# Altium footprint library WE-OLPI.PcbLib: 9 footprints
Each footprint in its own frame and in the unit in brackets; x right, y up, seen from the top. Pads: shape width x height; smd on the part's side, far side on the other; paste and mask are expansions set on the pad; w line width, h text height; cw(c..) or ccw(c..) is an arc to the next point about the centre after c.
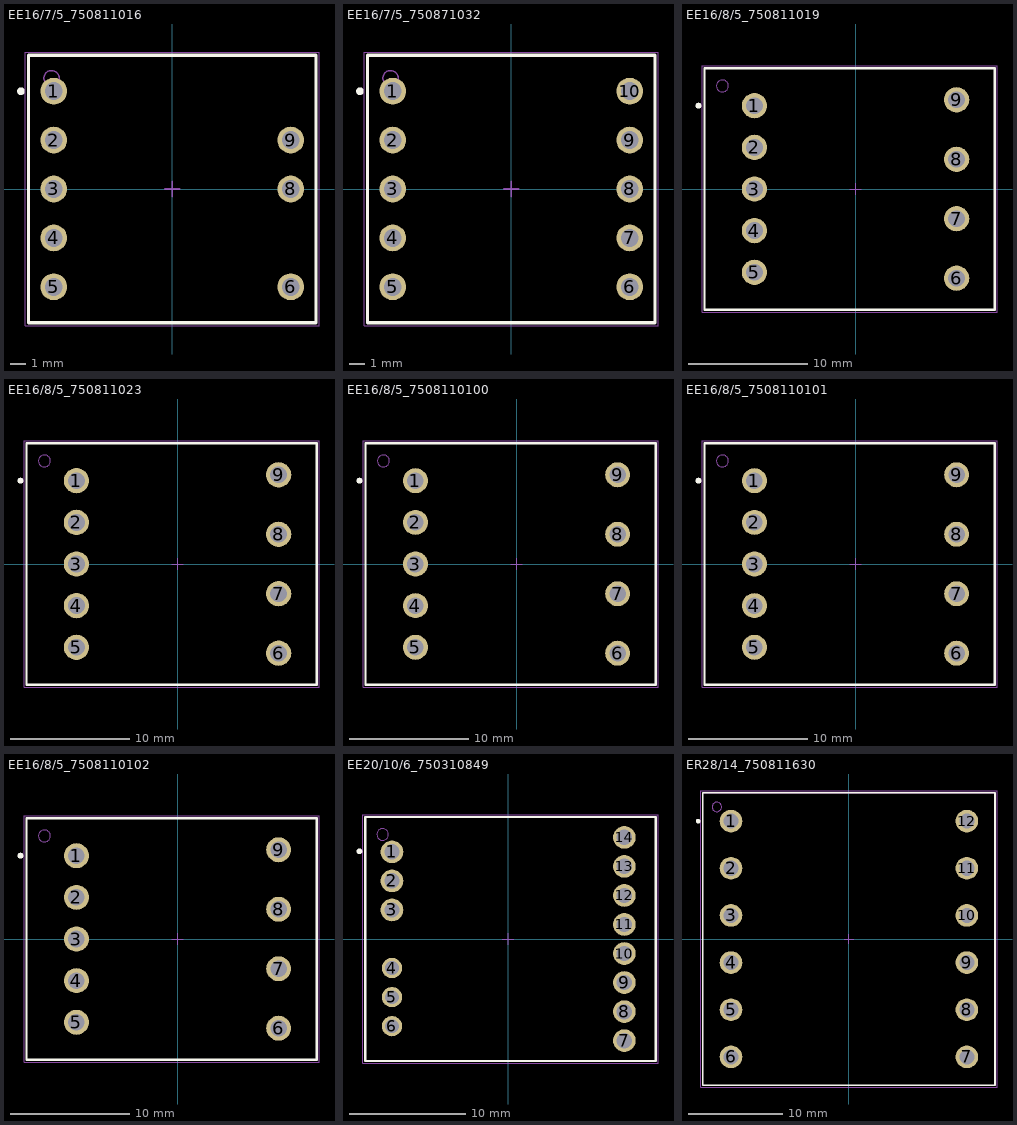
[diagram p0: the footprints below, top view; thin cyan lines are the x and y axes]

## EE16/7/5_750811016 [mm] "Offline Flyback Transformer, body 18.80 x 17.50 mm"
height 13.31
pads (8):
  round 1.75 hole 1.17: 1(-7.75,6.4) 2(-7.75,3.2) 3(-7.75,0) 4(-7.75,-3.2) 5(-7.75,-6.4) 6(7.75,-6.4) 8(7.75,0) 9(7.75,3.2)
Top Overlay:
  circle w0.25: c-9.9,6.4 r0.125
  lines w0.2: -9.4,-8.75 9.4,-8.75 9.4,8.75 -9.4,8.75 -9.4,-8.75
Top Assembly:
  circle w0.1: c-7.9,7.25 r0.5
  lines w0.1: -9.4,-8.75 9.4,-8.75 9.4,8.75 -9.4,8.75 -9.4,-8.75
Top Designator:
  text ".Designator" at -3.647,-0.357 h1
Top Courtyard:
  lines w0.05: -9.6,-8.95 9.6,-8.95 9.6,8.95 -9.6,8.95 -9.6,-8.95
Top Component Center:
  lines w0.1: -0.5,0 0.5,0 ; 0,-0.5 0,0.5
3D body "Download_STP_070-5472_MP7-10 (rev1).STEP": height 12.19, standoff -3.5, extent -9.107,-8.36 9.443,8.36

## EE16/7/5_750871032 [mm] "Offline Flyback Transformer, body 18.80 x 17.50 mm"
height 13.97
pads (10):
  round 1.75 hole 1.17: 1(-7.75,6.4) 2(-7.75,3.2) 3(-7.75,0) 4(-7.75,-3.2) 5(-7.75,-6.4) 6(7.75,-6.4) 7(7.75,-3.2) 8(7.75,0) 9(7.75,3.2) 10(7.75,6.4)
Top Overlay:
  circle w0.25: c-9.9,6.4 r0.125
  lines w0.2: -9.4,-8.75 9.4,-8.75 9.4,8.75 -9.4,8.75 -9.4,-8.75
Top Assembly:
  circle w0.1: c-7.9,7.25 r0.5
  lines w0.1: -9.4,-8.75 9.4,-8.75 9.4,8.75 -9.4,8.75 -9.4,-8.75
Top Designator:
  text ".Designator" at -3.647,-0.357 h1
Top Courtyard:
  lines w0.05: -9.6,-8.95 9.6,-8.95 9.6,8.95 -9.6,8.95 -9.6,-8.95
Top Component Center:
  lines w0.1: -0.5,0 0.5,0 ; 0,-0.5 0,0.5
3D body "Download_STP_070-5472 (rev1).STEP": height 12.19, standoff -3.5, extent -9.107,-8.36 9.443,8.36

## EE16/8/5_750811019 [mm] "Offline Flyback Transformer, body 24.38 x 20.32 mm"
height 16
pads (9):
  round 2.12 hole 1.42: 1(-8.5,7) 2(-8.5,3.5) 3(-8.5,0) 4(-8.5,-3.5) 5(-8.5,-7) 6(8.5,-7.5) 7(8.5,-2.5) 8(8.5,2.5) 9(8.5,7.5)
Top Overlay:
  circle w0.25: c-13.2,7 r0.125
  lines w0.2: -12.69,-10.16 11.69,-10.16 11.69,10.16 -12.69,10.16 -12.69,-10.16
Top Assembly:
  circle w0.1: c-11.19,8.66 r0.5
  lines w0.1: -12.69,-10.16 11.69,-10.16 11.69,10.16 -12.69,10.16 -12.69,-10.16
Top Designator:
  text ".Designator" at -3.647,-0.357 h1
Top Courtyard:
  lines w0.05: -12.89,-10.36 11.89,-10.36 11.89,10.36 -12.89,10.36 -12.89,-10.36
Top Component Center:
  lines w0.1: -0.5,0 0.5,0 ; 0,-0.5 0,0.5
3D body "070-5280 (rev1) (1).STEP": height 14.92, standoff -3.48, extent -12.405,-9.9 11.405,9.9

## EE16/8/5_750811023 [mm] "Offline Flyback Transformer, body 24.38 x 20.32 mm"
height 16
pads (9):
  round 2.12 hole 1.42: 1(-8.5,7) 2(-8.5,3.5) 3(-8.5,0) 4(-8.5,-3.5) 5(-8.5,-7) 6(8.5,-7.5) 7(8.5,-2.5) 8(8.5,2.5) 9(8.5,7.5)
Top Overlay:
  circle w0.25: c-13.2,7 r0.125
  lines w0.2: -12.69,-10.16 -12.69,10.16 11.69,10.16 11.69,-10.16 -12.69,-10.16
Top Assembly:
  circle w0.1: c-11.19,8.66 r0.5
  lines w0.1: -12.69,-10.16 -12.69,10.16 11.69,10.16 11.69,-10.16 -12.69,-10.16
Top Designator:
  text ".Designator" at -3.647,-0.357 h1
Top Courtyard:
  lines w0.05: -12.89,-10.36 -12.89,10.36 11.89,10.36 11.89,-10.36 -12.89,-10.36
Top Component Center:
  lines w0.1: -0.5,0 0.5,0 ; 0,-0.5 0,0.5
3D body "070-5280 (rev1) (1).STEP": height 14.92, standoff -3.48, extent -12.405,-9.9 11.405,9.9

## EE16/8/5_7508110100 [mm] "Offline Flyback Transformer, body 24.38 x 20.32 mm"
height 16
pads (9):
  round 2.1 hole 1.4: 1(-8.5,7) 2(-8.5,3.5) 3(-8.5,0) 4(-8.5,-3.5) 5(-8.5,-7) 6(8.5,-7.5) 7(8.5,-2.5) 8(8.5,2.5) 9(8.5,7.5)
Top Overlay:
  circle w0.25: c-13.2,7 r0.125
  lines w0.2: -12.69,-10.16 -12.69,10.16 11.69,10.16 11.69,-10.16 -12.69,-10.16
Top Assembly:
  circle w0.1: c-11.19,8.66 r0.5
  lines w0.1: -12.69,-10.16 -12.69,10.16 11.69,10.16 11.69,-10.16 -12.69,-10.16
Top Designator:
  text ".Designator" at -3.647,-0.357 h1
Top Courtyard:
  lines w0.05: -12.89,-10.36 -12.89,10.36 11.89,10.36 11.89,-10.36 -12.89,-10.36
Top Component Center:
  lines w0.1: -0.5,0 0.5,0 ; 0,-0.5 0,0.5
3D body "070-5280 (rev1) (1).STEP": height 14.92, standoff -3.48, extent -12.405,-9.9 11.405,9.9

## EE16/8/5_7508110101 [mm] "Offline Flyback Transformer, body 24.38 x 20.32 mm"
height 16
pads (9):
  round 2.1 hole 1.4: 1(-8.5,7) 2(-8.5,3.5) 3(-8.5,0) 4(-8.5,-3.5) 5(-8.5,-7) 6(8.5,-7.5) 7(8.5,-2.5) 8(8.5,2.5) 9(8.5,7.5)
Top Overlay:
  circle w0.25: c-13.2,7 r0.125
  lines w0.2: -12.69,-10.16 -12.69,10.16 11.69,10.16 11.69,-10.16 -12.69,-10.16
Top Assembly:
  circle w0.1: c-11.19,8.66 r0.5
  lines w0.1: -12.69,-10.16 -12.69,10.16 11.69,10.16 11.69,-10.16 -12.69,-10.16
Top Designator:
  text ".Designator" at -3.647,-0.357 h1
Top Courtyard:
  lines w0.05: -12.89,-10.36 -12.89,10.36 11.89,10.36 11.89,-10.36 -12.89,-10.36
Top Component Center:
  lines w0.1: -0.5,0 0.5,0 ; 0,-0.5 0,0.5
3D body "070-5280 (rev1) (1).STEP": height 14.92, standoff -3.48, extent -12.405,-9.9 11.405,9.9

## EE16/8/5_7508110102 [mm] "Offline Flyback Transformer, body 24.38 x 20.32 mm"
height 16
pads (9):
  round 2.1 hole 1.4: 1(-8.5,7) 2(-8.5,3.5) 3(-8.5,0) 4(-8.5,-3.5) 5(-8.5,-7) 6(8.5,-7.5) 7(8.5,-2.5) 8(8.5,2.5) 9(8.5,7.5)
Top Overlay:
  circle w0.25: c-13.2,7 r0.125
  lines w0.2: -12.69,-10.16 -12.69,10.16 11.69,10.16 11.69,-10.16 -12.69,-10.16
Top Assembly:
  circle w0.1: c-11.19,8.66 r0.5
  lines w0.1: -12.69,-10.16 -12.69,10.16 11.69,10.16 11.69,-10.16 -12.69,-10.16
Top Designator:
  text ".Designator" at -3.647,-0.357 h1
Top Courtyard:
  lines w0.05: -12.89,-10.36 -12.89,10.36 11.89,10.36 11.89,-10.36 -12.89,-10.36
Top Component Center:
  lines w0.1: -0.5,0 0.5,0 ; 0,-0.5 0,0.5
3D body "070-5280 (rev1) (1).STEP": height 14.92, standoff -3.48, extent -12.405,-9.9 11.405,9.9

## EE20/10/6_750310849 [mm] "Offline Flyback Transformer, body 25.00 x 21.00 mm"
height 16
pads (14):
  round 1.95 hole 1.32: 1(-10,7.5) 2(-10,5) 3(-10,2.5) 7(10,-8.75) 8(10,-6.25) 9(10,-3.75) 10(10,-1.25) 11(10,1.25) 12(10,3.75) 13(10,6.25) 14(10,8.75)
  round 1.75 hole 1.17: 4(-10,-2.5) 5(-10,-5) 6(-10,-7.5)
Top Overlay:
  circle w0.25: c-12.8,7.55 r0.125
  lines w0.2: -12.3,-10.5 12.7,-10.5 12.7,10.5 -12.3,10.5 -12.3,-10.5
Top Assembly:
  circle w0.1: c-10.8,9 r0.5
  lines w0.1: -12.3,-10.5 12.7,-10.5 12.7,10.5 -12.3,10.5 -12.3,-10.5
Top Designator:
  text ".Designator" at -3.647,-0.357 h1
Top Courtyard:
  lines w0.05: -12.5,-10.7 12.9,-10.7 12.9,10.7 -12.5,10.7 -12.5,-10.7
Top Component Center:
  lines w0.1: -0.5,0 0.5,0 ; 0,-0.5 0,0.5
3D body "Download_STP_070-5443-1170 (rev1).STEP": height 15.55, standoff -3.36, extent -12.2,-10.56 12.6,10.56

## ER28/14_750811630 [mm] "Offline Flyback Transformer, body 31.00 x 31.00 mm"
height 25
pads (12):
  round 2.4 hole 1.6: 1(-12.5,12.5) 2(-12.5,7.5) 3(-12.5,2.5) 4(-12.5,-2.5) 5(-12.5,-7.5) 6(-12.5,-12.5) 7(12.5,-12.5) 8(12.5,-7.5) 9(12.5,-2.5) 10(12.5,2.5) 11(12.5,7.5) 12(12.5,12.5)
Top Overlay:
  circle w0.25: c-15.98,12.485 r0.125
  lines w0.2: -15.5,-15.5 15.5,-15.5 15.5,15.5 -15.5,15.5 -15.5,-15.5
Top Assembly:
  circle w0.1: c-14,14 r0.5
  lines w0.1: -15.5,-15.5 15.5,-15.5 15.5,15.5 -15.5,15.5 -15.5,-15.5
Top Designator:
  text ".Designator" at -3.647,-0.357 h1
Top Courtyard:
  lines w0.05: -15.7,-15.7 15.7,-15.7 15.7,15.7 -15.7,15.7 -15.7,-15.7
Top Component Center:
  lines w0.1: -0.5,0 0.5,0 ; 0,-0.5 0,0.5
3D body "Download_STP_070-4869 (rev1).STEP": height 23.95, standoff -3.93, extent -14.46,-14.71 14.46,14.71